# Altium footprint library BGA4C50P2X2_89X89X62.PcbLib: 1 footprints
Each footprint in its own frame and in the unit in brackets; x right, y up, seen from the top. Pads: shape width x height; smd on the part's side, far side on the other; paste and mask are expansions set on the pad; w line width, h text height; cw(c..) or ccw(c..) is an arc to the next point about the centre after c.
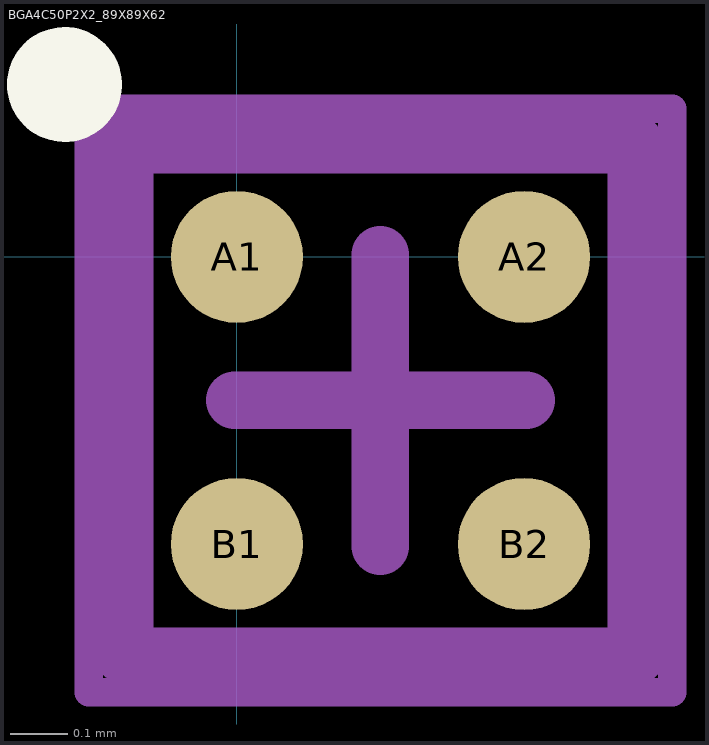
[diagram p0: the footprint, top view; thin cyan lines are the x and y axes]

## BGA4C50P2X2_89X89X62 [mm] "BGA, 4-Leads, Body 0,89x0,89mmx0,63mm, Pitch 0,50mm"
height 0.63
pads (4):
  round 0.23 smd paste+0.03 mask+0.05: A1(0,0) A2(0.5,0) B1(0,-0.5) B2(0.5,-0.5)
Top Overlay:
  circle w0.1: c-0.3,0.3 r0.05
Top Assembly:
  lines w0.1: -0.195,-0.695 0.695,-0.695 0.695,0.195 -0.195,0.195 -0.195,-0.695
Top Courtyard:
  lines w0.05: -0.258,-0.758 0.758,-0.758 0.758,0.258 -0.258,0.258 -0.258,-0.758
  lines w0.1: -0.004,-0.25 0.504,-0.25 ; 0.25,-0.504 0.25,0.004
3D body "BGA4C50P2X2_89X89X62.step": height 0.63, standoff 0, extent -0.195,-0.695 0.695,0.195